# Altium schematic symbol library RES,10m,1%,7W,2818.Schlib: 1 symbol
Pins are listed as number, name and electrical type; pins without a type are passive.

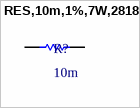
[diagram p0: symbol RES,10m,1%,7W,2818]

## RES,10m,1%,7W,2818
designator R?, comment 10m
7W ±75ppm/℃ ±1% 10mΩ 2818 Chip Resistor - Surface Mount ROHS
pins: 1, 2